# Altium footprint library TaiyoYuden.PcbLib: 1 footprints
Each footprint in its own frame and in the unit in brackets; x right, y up, seen from the top. Pads: shape width x height; smd on the part's side, far side on the other; paste and mask are expansions set on the pad; w line width, h text height; cw(c..) or ccw(c..) is an arc to the next point about the centre after c.
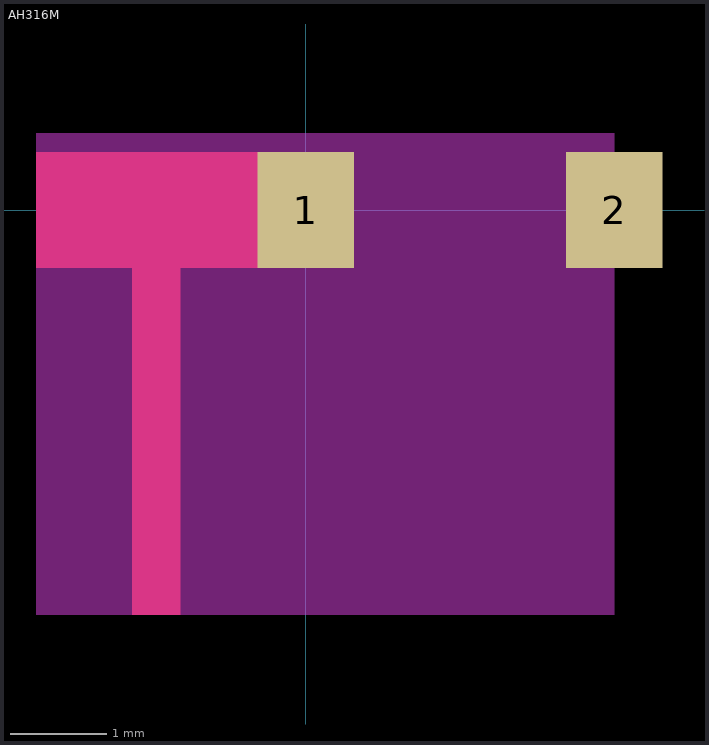
[diagram p0: the footprint, top view; thin cyan lines are the x and y axes]

## AH316M [mm]
height 0.5
pads (2):
  rect 1x1.2 smd: 1(0,0) 2(3.2,0)
Top Layer:
  rectangle: -1.8,-4.2 -1.3,-0.6
  rectangle: -2.8,-0.6 0,0.6
Keep-Out Layer:
  rectangle: -2.8,-4.2 3.2,0.8
3D body: height 0.8, standoff 0, extent 0,-0.8 3.2,0.8